# Altium schematic symbol library Discrete_Miscellaneous.SchLib: 50 symbols
Pins are listed as number, name and electrical type; pins without a type are passive.

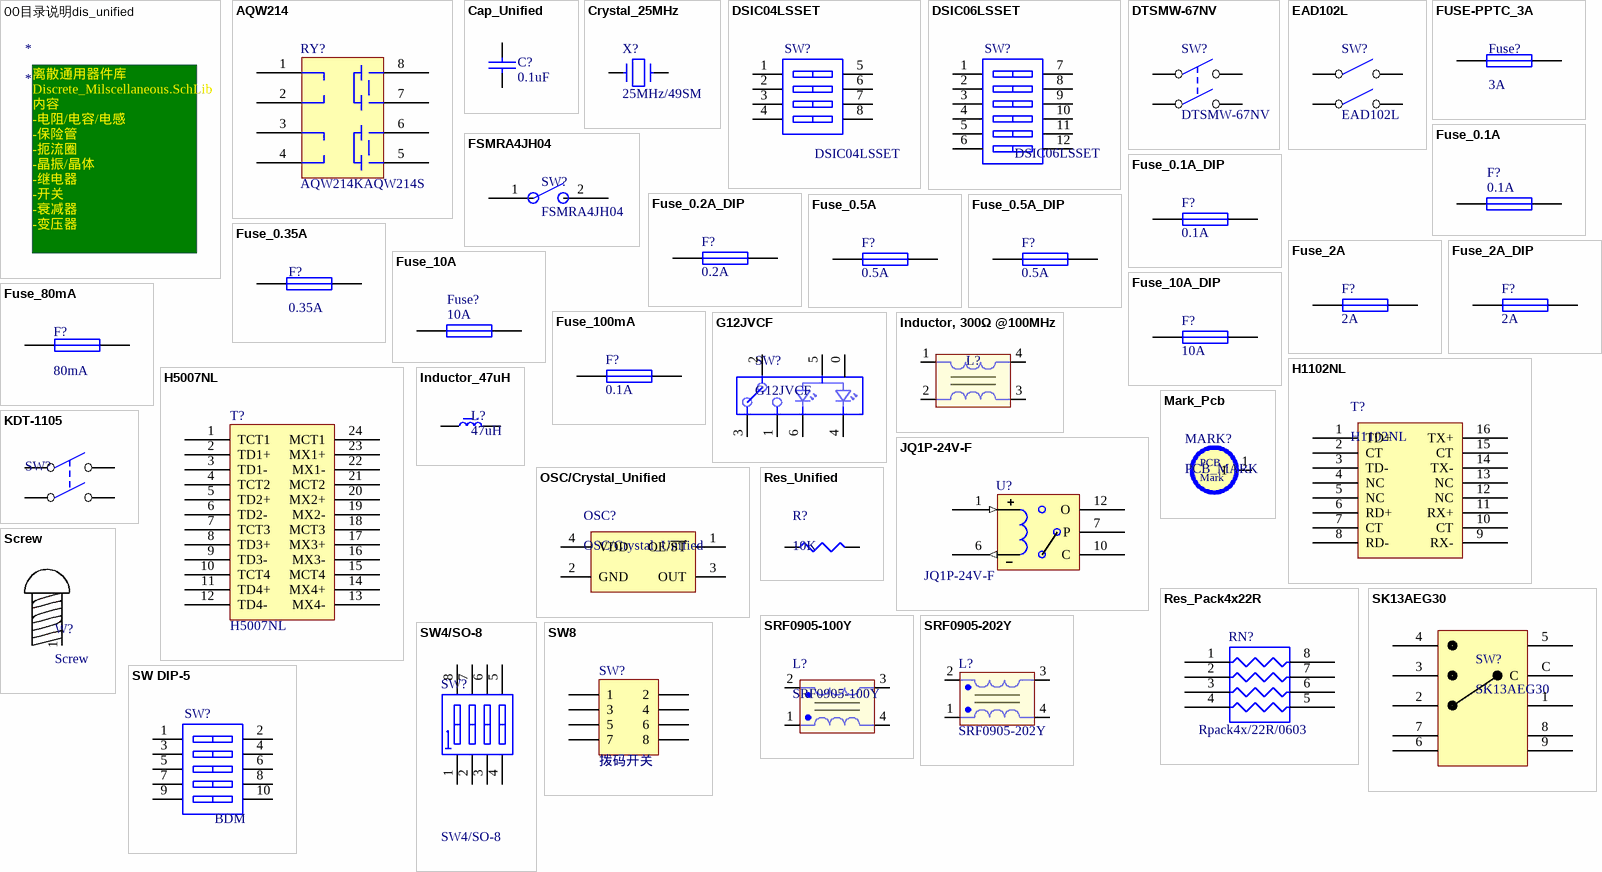
[diagram p0: symbols 00目录说明dis_unified to SW DIP-5]

## 00目录说明dis_unified
designator *
text: 离散通用器件库 Discrete_Milscellaneous.SchLib / 内容 / -电阻/电容/电感 / -保险管 / -扼流圈 / -晶振/晶体 / -继电器 / -开关 / -衰减器 / -变压器 /

## AQW214
designator RY?, comment AQW214KAQW214S
PhotoMOS RELAYS; Manufacturer: Panasonic; Name: 光继电器; Ordering NO.: AQW214KAQW214S
footprint AQW214S
pins: 1, 2, 3, 4, 5, 6, 7, 8

## Cap_Unified
designator C?, comment 0.1uF
无极性通用电容, 0.1uF, 0603; Manufacturer: AVX; BOM_price: 0.02; Name: 电容; BOM_type: n/a
footprint C0603 (Chip Capacitor, Body 1.6x0.8mm, IPC Medium Density)
footprint C0805 (Chip Capacitor, Body 2.0x1.3mm, IPC Medium Density)
footprint C1206 (Chip Capacitor, Body 3.2x1.6mm, IPC Medium Density)
pins: 1, 2

## Crystal_25MHz
designator X?, comment 25MHz/49SM
通用贴片石英晶体, 25MHz, 49SM封装; Manufacturer: Citizen; 物料替代型号: KDS,Epson,SEIKO; Name: 晶振; Price: 0.8
footprint 32768FP (圆柱型 32KHz晶体,卧式安装)
footprint CY2012 (表贴石英晶体,200x120mil)
footprint 49SM (49晶体的表贴型3~75MHz,)
footprint CRY11.4*4.7 (贴片晶振)
pins: 1, 2

## DSIC04LSSET
designator SW?
DIP Switch,4位,SMD; Manufacturer: Kingtek; Name: 拨码开关; Ordering NO.: DSIC04LSSET
footprint DSW4/2.54 (Body 10.16*6mm)
pins: 1, 2, 3, 4, 5 ON1, 6 ON2, 7 ON3, 8 ON4

## DSIC06LSSET
designator SW?
DIP Switch,6位,SMD; Manufacturer: Kingtek; Name: 拨码开关; Ordering NO.: DSIC06LSSET
footprint DSW6/2.54 (Body 15.24*6mm)
pins: 1, 2, 3, 4, 5, 6, 7 ON1, 8 ON2, 9 ON3, 10 ON4, 11 ON5, 12 ON6

## DTSMW-67NV
designator SW?
4脚180度复位开关; Manufacturer: 南士; Name: 按钮开关; Ordering NO.: DTSMW-67NV
footprint DSW2/4.57
pins: 1 COMMON1, 2 NO1, 3 COMMON2, 4 NO2

## EAD102L
designator SW?
DIP Switch,2位,SMD; Manufacturer: ECE; Name: 拨码开关; Ordering NO.: EAD102L
footprint DSW2/2.54 (Footprint not found)
pins: 1 COMMON1, 2 COMMON2, 3 NO1, 4 NO2

## FSMRA4JH04
designator SW?
Tactile Pushbutton Switch, Single Pole , Single Throw Configuration,Contact Rating = 50mA, Operating Function = Off [On]; Manufacturer: TE CONNECTIVITY; Name: 轻触开关; Ordering No.: FSMRA4JH04
footprint SW4-TP (Footprint not found)
pins: 1, 2

## FUSE-PPTC_3A
designator Fuse?, comment 3A
可恢复熔丝,  直插, 5.08mm, 3A; Manufacturer: 浪拓; Name: 保险丝; Ordering NO.: JK250-080u
footprint CAP-5.08MM (片式元件5.08mm间距,高9.3mm)
pins: 1, 2

## Fuse_0.1A
designator F?, comment 0.1A
Fuse, 0.1A,贴片自恢复保险丝; Manufacturer: 浪拓; Name: 保险丝; Ordering NO.: LT-USM010
footprint F3225 (Body 3.43*2.8(MAX))
pins: 1, 2

## Fuse_0.1A_DIP
designator F?, comment 0.1A
不可恢复直插熔丝, 0.1A, 8.5 mm, Quick-Acting F, 250 VAC, 250 VDC（制作BOM时需要配套列出对应底座, 厂家为SCHURTER, 型号为0031.7601）; Name: 保险丝; Ordering NO.: 0034.6004(实际在PCB焊接的为底座，型号为0031.7601); Tips: TUV认证; Manufacturer: SCHURTER
footprint FUSC-5.08 (Holder for MSx 250)
pins: 1, 2

## Fuse_0.2A_DIP
designator F?, comment 0.2A
不可恢复直插熔丝, 0.2A, 8.5 mm, Quick-Acting F, 250 VAC, 250 VDC（制作BOM时需要配套列出对应底座, 厂家为SCHURTER, 型号为0031.7601）; Name: 保险丝; Ordering NO.: 0034.6007(实际在PCB焊接的为底座，型号为0031.7601); Tips: TUV认证; Manufacturer: SCHURTER
footprint FUSC-5.08 (Holder for MSx 250)
pins: 1, 2

## Fuse_0.5A
designator F?, comment 0.5A
Fuse, 0.5A,125VAC/VDC; Manufacturer: Littlefuse; Name: 保险丝; Ordering NO.: 0451.500MRL; Revision: July-2002: Re-released for DXP Platform.
footprint F6127 (Body 6.1*2.69)
pins: 1, 2

## Fuse_0.5A_DIP
designator F?, comment 0.5A
不可恢复直插熔丝, 0.5A, 8.5 mm, Quick-Acting F, 250 VAC, 250 VDC（制作BOM时需要配套列出对应底座, 厂家为SCHURTER, 型号为0031.7601）; Name: 保险丝; Ordering NO.: 0034.6011(实际在PCB焊接的为底座，型号为0031.7601); Tips: TUV认证; Manufacturer: SCHURTER
footprint FUSC-5.08 (Holder for MSx 250)
pins: 1, 2

## Fuse_0.35A
designator F?, comment 0.35A
保险丝, 可恢复, 0.35A; Manufacturer: Littlefuse; Ordering NO.: 1210L035; Price: 0.5; Name: 保险丝
footprint F3225 (Body 3.43*2.8(MAX))
pins: 1, 2

## Fuse_2A
designator F?, comment 2A
Fuse, 2A,50A@125 VAC/VDC; Manufacturer: Littlefuse; Name: 保险丝; Ordering NO.: 0451 002.MRL; Revision: July-2002: Re-released for DXP Platform.
footprint F6127 (Body 6.1*2.69)
pins: 1, 2

## Fuse_2A_DIP
designator F?, comment 2A
不可恢复直插熔丝, 2A, 8.5 mm, Quick-Acting F, 250 VAC, 250 VDC（制作BOM时需要配套列出对应底座, 厂家为SCHURTER, 型号为0031.7601）; Name: 保险丝; Ordering NO.: 0034.6017(实际在PCB焊接的为底座，型号为0031.7601); Tips: TUV认证; Manufacturer: SCHURTER
footprint FUSC-5.08 (Holder for MSx 250)
pins: 1, 2

## Fuse_10A
designator Fuse?, comment 10A
表贴Fuse, 10A,125VAC/VDC; Manufacturer: Littlefuse; Name: 保险丝; Ordering NO.: 0215 010P; Revision: July-2002: Re-released for DXP Platform.
footprint F6127 (Body 6.1*2.69)
pins: 1, 2

## Fuse_10A_DIP
designator F?, comment 10A
不可恢复直插熔丝, 10A, 8.5 mm, Time-Lag T, 250 VAC（制作BOM时需要配套列出对应底座, 厂家为SCHURTER, 型号为0031.7601）; Name: 保险丝; Ordering NO.: 0034.6925(实际在PCB焊接的为底座，型号为0031.7601); Tips: TUV认证; Manufacturer: SCHURTER
footprint FUSC-5.08 (Holder for MSx 250)
pins: 1, 2

## Fuse_80mA
designator F?, comment 80mA
可恢复熔丝, 80mA; Manufacturer: TE; Name: 可恢复保险丝; Ordering NO.: TRF250-080U; Tips: TUV认证
footprint FUSR-5.08 (250-080u保险丝使用)
pins: 1, 2

## Fuse_100mA
designator F?, comment 0.1A
保险丝底座配套0.1A,250VAC/DC; Manufacturer: SCHURTER; Name: 保险丝底座; Ordering NO.: 0031.7601
footprint FUSC-5.08 (Holder for MSx 250)
simulation model FUSE (Spice Subcircuit)
pins: 1, 2

## G12JVCF
designator SW?
illuminated switches-ultra miniature fully illuminated toggle switches; Manufacturer: nkk; Tips: G12JVCF vertical PC; Name: 钮子开关; terminal: 2.54mm, 0.6mm diameter; Ordering NO.: G12JVCF
footprint SW2/2.54-L (Toggle Switch with bicolor LED)
pins: 0, 1, 2 COM, 3, 4 Red, 5, 6 Green

## H1102NL
designator T?
百兆以太网变压器FE1:1; Manufacturer: PULSE; 物料参考价格: 5.01; 物料型号说明: Pulse Eng 100base-TX以太网变压器1:1; 物料替代型号: 国产; Ordering NO.: H1102NL; Name: 百兆以太网变压器
footprint SOIC-16W/50mil/Higher (SOIC 16-Leads,Pitch=50mil/1.27mm)
pins: 1 TD+, 2 CT, 3 TD-, 4 NC, 5 NC, 6 RD+, 7 CT, 8 RD-, 9 RX-, 10 CT, 11 RX+, 12 NC, 13 NC, 14 TX-, 15 CT, 16 TX+

## H5007NL
designator T?
千兆以太网变压器; Manufacturer: PULSE; 物料替代型号: 2401; Price: 5.01; Ordering NO.: H5007NL; Name: 千兆以太网变压器
footprint STFM24/1.27 (50mil间距)
pins: 1 TCT1, 2 TD1+, 3 TD1-, 4 TCT2, 5 TD2+, 6 TD2-, 7 TCT3, 8 TD3+, 9 TD3-, 10 TCT4, 11 TD4+, 12 TD4-, 13 MX4-, 14 MX4+, 15 MCT4, 16 MX3-, 17 MX3+, 18 MCT3, 19 MX2-, 20 MX2+, 21 MCT2, 22 MX1-, 23 MX1+, 24 MCT1

## Inductor, 300Ω @100MHz
designator L?, comment Inductor, 300Ω  (value not drawn)
Inductor, 300Ω @100MHz, 0.4A; Manufacturer: TDK; Ordering NO.: ACM7060-301-2PL-TL01; Name: 电感
footprint SFLT4_7.0*6.0 (7.0X6.0mm)
pins: 1, 2, 3, 4

## Inductor_47uH
designator L?, comment 47uH
贴片电感,方形磁罐MSS1260扼流圈等, 47uH; Manufacturer: TDK; Replacement: none; Name: 电感; Price: 0.21
footprint L1812 (贴片电感, 4.5x4.5mm, 高3.4mm)
footprint L1818 (磁心圆柱功率电感)
footprint L13*13 (方形磁罐13x13厚6mm表贴电感MSS1260等)
footprint L7*7 (方底圆形磁罐7x7厚4mm表贴电感)
footprint L3*3.5 (磁罐电感3x3.5mm厚3mm表贴电感)
footprint L0603 (贴边电感0603或磁珠,60 x 30 mil)
footprint L0805 (贴片电感或磁珠0805,80 x 50mil)
pins: 1, 2

## JQ1P-24V-F
designator U?
24Vsmall power  relays, High capacity :10A; Manufacturer: Panasonic; Name: 继电器; Ordering NO.: JQ1P-24V-F
footprint JQ1P-24V-F (松下继电器JQ1P-24V-F专用封装)
pins: 1 + (in), 6 - (out), 7 P, 10 C, 12 O

## KDT-1105
designator SW?  (value not drawn)
footprint DSW2/4.57
pins: 1 COMMON1, 2 NO1, 3 COMMON2, 4 NO2

## Mark_Pcb
designator MARK?, comment PCB_MARK  (no BOM)
PCB Mark点(BOM单中请忽略); Price: 0
footprint TP60
footprint MARK60mil
footprint MARK-1mm
pins: 1
text: PCB; Mark

## OSC/Crystal_Unified
designator OSC?
通用有源晶振; Manufacturer: KDS; 物料替代型号: Citizen,SEIKO,Epson; Price: 3.01
footprint OSC7050 (晶振SMD 7.0x5.0mm)
footprint OSC2016 (晶振SMD 200 x 160mil)
pins: 1 OE/~{ST}, 2 GND, 3 OUT, 4 VDD

## Res_Pack4x22R
designator RN?, comment Rpack4x/22R/0603
贴片阻排4x22R; Manufacturer: AVX; Replacement: none; Name: 排阻; Price: 0.51
footprint RN0603 (阻排0603x4)
footprint RN0402 (Footprint not found)
pins: 1 R1, 2 R2, 3 R3, 4 R4, 5 R4, 6 R3, 7 R2, 8 R1

## Res_Unified
designator R?, comment 10K
通用电阻; Manufacturer: AVX; Replacement: none; Name: 电阻; Price: 0.01
footprint R0603 (Chip Resistor, Body 1.6x0.8mm)
footprint R0805 (Chip Resistor; Body 2.0 x 1.3 mm (LxW typ))
footprint R1206 (Chip Resistor; Body 3.2 x 1.6 mm (LxW typ))
pins: 1, 2

## Screw
designator W?  (no BOM)
固定螺丝孔(BOM单中请忽略)
footprint SCREW/3.3/5.5mm (固定螺丝孔)
footprint SCREW_D2.5 (D2.5mm螺丝孔)
footprint SCREW_D3.0 (D3.0mm螺钉孔)
pins: 1

## SK13AEG30
designator SW?
nkk SK-Series Keylock PCB Mount 3-Position with Right Angle; Name: 钥匙开关(Keylock); Manufacturer: nkk; Ordering No.: SK13AEG30
footprint SW3/2.54 (NKK SK-Series Keylock PCB Mount 3-Position with Right Angle)
pins: 1, 2, 3, 4, 5, 6, 7, 8, 9, C

## SRF0905-100Y
designator L?
Line Filter, Current: 1.6 A, Inductance: 10 μH, Frequency range: 20-300 MHz; Manufacturer: BOURNS; Name: 共模扼流圈; Ordering NO.: SRF0905-100Y
footprint SFLT4_9.2*6.0 (9.2X6.0mm)
pins: 1, 2, 3, 4

## SRF0905-202Y
designator L?
Line Filter, Current: 0.6 A, Inductance: 2000μH, Frequency range: 1-5MHz; Manufacturer: BOURNS; Name: 共模扼流圈; Ordering NO.: SRF0905-202Y
footprint SFLT4_9.2*6.0 (9.2X6.0mm)
pins: 1, 2, 3, 4

## SW4/SO-8
designator SW?
4位平拨开关,SMD; Manufacturer: 国产; 物料参考价格: 2.5; Name: 表贴拨码开关8位; Ordering NO.: 4位表贴拨码开关; 物料型号说明: SO-8封装; 物料替代型号: n/a
footprint SO8/1.27_4.9*3.9 (SOIC, 8-Leads, Body 4.9x3.9mm, Pitch 1.27mm,)
pins: 1 A1, 2 A2, 3 A3, 4 A4, 5 A5, 6 A6, 7 A7, 8 A8

## SW8
designator SW?, comment 拨码开关
Header, 4-Pin, Dual row; Name: 拨码开关
footprint DIP8/2.54
pins: 1, 2, 3, 4, 5, 6, 7, 8

## SW DIP-5
designator SW?, comment BDM
DIP Switch
footprint DIP10/2.54-A (Footprint not found)
pins: 1 A1, 2 B1, 3 A2, 4 B2, 5 A3, 6 B3, 7 A4, 8 B4, 9 A5, 10 B5

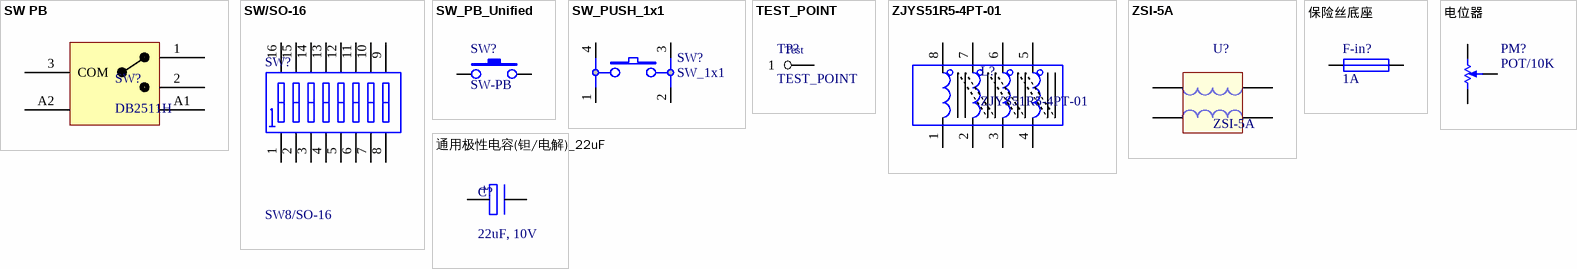
[diagram p1: symbols SW PB to 通用极性电容(钽/电解)_22uF]

## SW PB
designator SW?, comment DB2511H
Light Touch Miniature Pushbuttons,Right Angle PC with Bracket; Manufacturer: nkk; Name: 轻触按钮开关; Ordering NO.: DB2511H带AT442C盖帽
footprint SW3/5.08-SP
pins: 1, 2, 3 COM, A1, A2

## SW/SO-16
designator SW?, comment SW8/SO-16
8位平拨开关,SMD; Manufacturer: 通用; 物料参考价格: 1; Ordering NO.: 表贴拨码开关8位; 物料替代型号: n//a; Name: 8位表贴拨码开关; 物料型号说明: SO-16封装
footprint DSW8/1.27 (Footprint not found)
pins: 1 A1, 2 A2, 3 A3, 4 A4, 5 A5, 6 A6, 7 A7, 8 A8, 9 B8, 10 B7, 11 B6, 12 B5, 13 B4, 14 B3, 15 B2, 16 B1

## SW_PB_Unified
designator SW?, comment SW-PB
开关通用
footprint SIP2/2.54 (单排2.54插针, 焊盘: 外径1.5mm,孔径1mm)
footprint SIP2/2.54/LOCK (带锁单排2.54插针, 焊盘: 外径1.5mm,孔径1mm)
pins: 1, 2
2 alternate drawings of the same symbol

## SW_PUSH_1x1
designator SW?, comment SW_1x1
微动开关1x1,5X5 贴片微动按钮开关; Text Field1: 70; Text Field2: 20
footprint TSW5*5 (Footprint not found)
pins: 1, 2, 3, 4

## TEST_POINT
designator TP?  (no BOM)
TEST_POINT(BOM单中请忽略); Price: 0
footprint TP0.7-SMD
footprint TP60
footprint TP1.0-SMD (Footprint not found)
pins: 1
text: Test

## ZJYS51R5-4PT-01
designator L?
Common Mode Filters For General Signal Line; Manufacturer: TDK; Name: 共模扼流圈; Ordering No.: ZJYS51R5-4PT-01
footprint SO8/2.54_10.5*6.86 (8-Leads, Body 10.5x6.9mm (max), Pitch 2.54mm, IPC Medium Density)
pins: 1, 2, 3, 4, 5, 6, 7, 8

## ZSI-5A
designator U?
输入噪声衰减器；最大工作电流5A;1-2,3-4电感量1.5mH;线电阻≤15mΩ; Name: 输入噪声衰减器
footprint DIP4/5.08 (Footprint not found)
pins: 1, 2, 3, 4

## 保险丝底座
designator F-in?, comment 1A
8x25保险丝底座; Name: 保险丝底座
footprint FUSE_8*25 (Footprint not found)
pins: 1, 2

## 电位器
designator PM?, comment POT/10K
电位器; Name: 电位器
footprint POT4MM-2A (表贴4mm电位器)
pins: CCW -, CW +, W
1 alternate drawing of the same symbol

## 通用极性电容(钽/电解)_22uF
designator C?, comment 22uF, 10V
通用极性电容(钽/电解), 22uF, 10V, 1206; Manufacturer: AVX; Name: 通用极性电容
footprint C5*6 (Footprint not found)
footprint CAPC-200 (超级电容直插封装,直径800mil,pitch=200mil)
footprint C3216 (A封装,极性电容, Body 3.2x1.6mm)
footprint C2012 (贴片电容有极性2012,200x120mil)
pins: 1 P, 2 P
1 alternate drawing of the same symbol
text: +